# Altium integrated library Dallas Peripheral Peripheral Interface.IntLib: 2 symbols
Pins are listed as number, name and electrical type; pins without a type are passive.

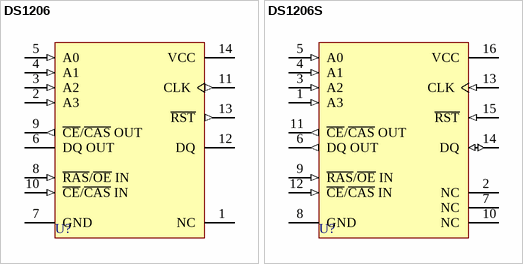
[diagram p0: symbols DS1206 to DS1206S]

## DS1206
designator U?
Phantom Serial Interface Chip; PackageDocument: 1999; Note: Pin number 1 is Not Connected (NC); Published: 13-Oct-2000; LatestRevisionDate: 06-Jun-2005; LatestRevisionNote: Stylized 3D Model Added.; DatasheetDocument: 14-Feb-1992; PackageReference: DIP14; Publisher: Altium Limited; ComponentLink1Description: Manufacturer Link; ComponentLink1URL: http://www.maxim-ic.com/
footprint DIP14 (DIP; 14 Leads; Row Spacing 7.62 mm; Pitch 2.54 mm)
3D model DIP14 (DIP; 14 Leads; Row Spacing 7.62 mm; Pitch 2.54 mm)
pins: 1 NC, 2 A3 (in), 3 A2 (in), 4 A1 (in), 5 A0 (in), 6 DQ OUT (hiz), 7 GND (power), 8 ~{RAS}/~{OE} IN (in), 9 ~{CE}/~{CAS} OUT (out), 10 ~{CE}/~{CAS} IN (in), 11 CLK (out), 12 DQ (hiz), 13 ~{RST} (out), 14 VCC (power)

## DS1206S
designator U?
Phantom Serial Interface Chip; PackageDocument: 1994; Note: Pin numbers 2, 7 and 10 are Not Connected (NC); Published: 13-Oct-2000; LatestRevisionDate: 06-Jun-2005; LatestRevisionNote: Stylized 3D Model Added.; DatasheetDocument: 14-Feb-1992; PackageReference: SOIC16WA; Publisher: Altium Limited; ComponentLink1Description: Manufacturer Link; ComponentLink1URL: http://www.maxim-ic.com/
footprint SOIC16WA (Small Outline; 16 Leads; Body Width 7.5 mm; Pitch 1.27 mm)
3D model SOIC16WA (Small Outline; 16 Leads; Body Width 7.5 mm; Pitch 1.27 mm)
pins: 1 A3 (in), 2 NC, 3 A2 (in), 4 A1 (in), 5 A0 (in), 6 DQ OUT (out), 7 NC, 8 GND (power), 9 ~{RAS}/~{OE} IN (in), 10 NC, 11 ~{CE}/~{CAS} OUT (out), 12 ~{CE}/~{CAS} IN (in), 13 CLK (in), 14 DQ (io), 15 ~{RST} (in), 16 VCC (power)